# Altium schematic symbol library 2-Cap.SchLib: 174 symbols (part 2 of 2)
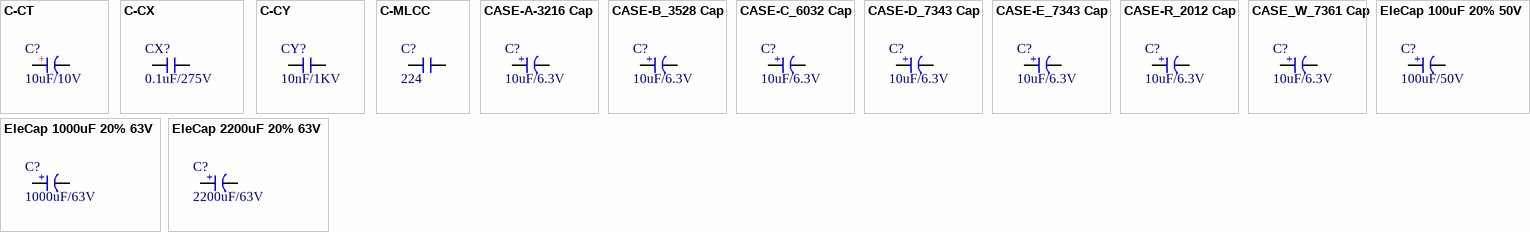
[diagram p5: symbols C-CT to EleCap 2200uF 20% 63V]

## CASE-A-3216 Cap
designator C?, comment 10uF/6.3V
贴片钽电容; 版权归属: 源创客; BOM名称: 贴片钽电容; 学习资源: www.ooocke.com
footprint CASE-A_3216 (长3.2mm,宽1.6mm,高1.6mm)
pins: 1 A, 2 K
text: +

## CASE-B_3528 Cap
designator C?, comment 10uF/6.3V
贴片钽电容; 版权归属: 源创客; BOM名称: 贴片钽电容; 学习资源: www.ooocke.com
footprint CASE-B_3528 (长3.5mm,宽2.8mm,高1.9mm)
pins: 1 A, 2 K
text: +

## CASE-C_6032 Cap
designator C?, comment 10uF/6.3V
贴片钽电容; 版权归属: 源创客; BOM名称: 贴片钽电容; 学习资源: www.ooocke.com
footprint CASE-C_6032 (长6.0mm,宽3.2mm,高2.5mm)
pins: 1 A, 2 K
text: +

## CASE-D_7343 Cap
designator C?, comment 10uF/6.3V
贴片钽电容; 版权归属: 源创客; BOM名称: 贴片钽电容; 学习资源: www.ooocke.com
footprint CASE-D_7343 (长7.3mm,宽4.3mm,高2.8mm)
pins: 1 A, 2 K
text: +

## CASE-E_7343 Cap
designator C?, comment 10uF/6.3V
贴片钽电容; 版权归属: 源创客; BOM名称: 贴片钽电容; 学习资源: www.ooocke.com
footprint CASE-E_7343 (长7.3mm,宽4.3mm,高4.0mm)
pins: 1 A, 2 K
text: +

## CASE-R_2012 Cap
designator C?, comment 10uF/6.3V
贴片钽电容; 版权归属: 源创客; BOM名称: 贴片钽电容; 学习资源: www.ooocke.com
footprint CASE-R_2012 (长2.0mm,宽1.25mm,高1.2mm)
pins: 1 A, 2 K
text: +

## CASE_W_7361 Cap
designator C?, comment 10uF/6.3V
贴片钽电容; 版权归属: 源创客; BOM名称: 贴片钽电容; 学习资源: www.ooocke.com
footprint CASE_W_7361 (长7.3mm,宽6.1mm,高3.5mm)
pins: 1 A, 2 K
text: +

## EleCap 100uF 20% 50V
designator C?, comment 100uF/50V
直插电解电容; 编号: C128473; BOM名称: 直插电解电容; URL: https://item.szlcsc.com/139758.html
footprint CAP 3.5*8*11.5 (脚距3.5mm直径8mm高度11.5mm)
footprint CAP 3.5*8*11.5 - BK (脚距3.5mm直径8mm高度11.5mm)
footprint CAP 3.5*8*11.5 - GD (脚距3.5mm直径8mm高度11.5mm)
footprint CAP 3.5*8*11.5-H (脚距3.5mm直径8mm高度11.5mm)
footprint CAP 3.5*8*11.5-H - BK (脚距3.5mm直径8mm高度11.5mm)
footprint CAP 3.5*8*11.5-H - GD (脚距3.5mm直径8mm高度11.5mm)
pins: 1 A, 2 K
text: +

## EleCap 1000uF 20% 63V
designator C?, comment 1000uF/63V
直插电解电容; 编号: C278526; BOM名称: 直插电解电容; URL: https://item.szlcsc.com/265693.html
footprint CAP 7.5*16*31.5 (脚距7.5mm直径16mm高度31.5mm)
footprint CAP 7.5*16*31.5 - BK (脚距7.5mm直径16mm高度31.5mm)
footprint CAP 7.5*16*31.5 - GD (脚距7.5mm直径16mm高度31.5mm)
footprint CAP 7.5*16*31.5-H (脚距7.5mm直径16mm高度31.5mm)
footprint CAP 7.5*16*31.5-H - BK (脚距7.5mm直径16mm高度31.5mm)
footprint CAP 7.5*16*31.5-H - GD (脚距7.5mm直径16mm高度31.5mm)
pins: 1 A, 2 K
text: +

## EleCap 2200uF 20% 63V
designator C?, comment 2200uF/63V
直插电解电容; 编号: C178401; BOM名称: 直插电解电容; URL: https://item.szlcsc.com/189794.html
footprint CAP 7.5*18*35.5 (脚距7.5mm直径18mm高度35.5mm)
footprint CAP 7.5*18*35.5 - BK (脚距7.5mm直径18mm高度35.5mm)
footprint CAP 7.5*18*35.5 - GD (脚距7.5mm直径18mm高度35.5mm)
footprint CAP 7.5*18*35.5-H (脚距7.5mm直径18mm高度35.5mm)
footprint CAP 7.5*18*35.5-H - BK (脚距7.5mm直径18mm高度35.5mm)
footprint CAP 7.5*18*35.5-H - GD (脚距7.5mm直径18mm高度35.5mm)
pins: 1 A, 2 K
text: +